# Altium integrated library WE-HCC SMD High Current Cube Inductor.IntLib: 47 symbols
Pins are listed as number, name and electrical type; pins without a type are passive.

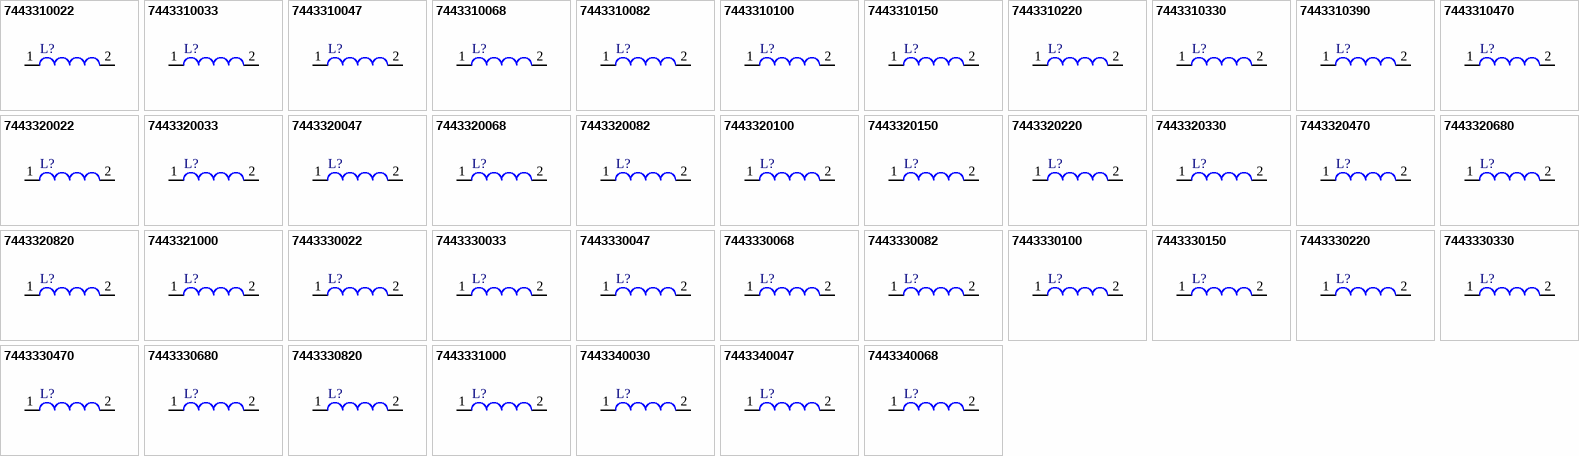
[diagram p0: symbols 7443310022 to 7443340068]

## 7443310022
designator L?
SMD High Current Cube Inductor WE-HCC, L=0.22 µH; PartNumber: 7443310022; Inductance: 0.22 µH; DatasheetVersion: ver 2, Nov-2009; PackageReference: WE-HCC-1210; PackageDescription: Inductor, 2-Leads, Body 12.1 x 11.4 mm; ComponentLink1Description: Manufacturer URL; ComponentLink1URL: http://www.we-online.com; ComponentLink2Description: Datasheet; ComponentLink2URL: http://www.we-online.de/katalog/media/pdf/7443310022.pdf
footprint WE-HCC-1210 (Inductor, 2-Leads, Body 12.1x11.4x10.0 mm)
pins: 1, 2

## 7443310033
designator L?
SMD High Current Cube Inductor WE-HCC, L=0.33 µH; PartNumber: 7443310033; Inductance: 0.33 µH; DatasheetVersion: ver 2, Nov-2009; PackageReference: WE-HCC-1210; PackageDescription: Inductor, 2-Leads, Body 12.1 x 11.4 mm; ComponentLink1Description: Manufacturer URL; ComponentLink1URL: http://www.we-online.com; ComponentLink2Description: Datasheet; ComponentLink2URL: http://www.we-online.de/katalog/media/pdf/7443310033.pdf
footprint WE-HCC-1210 (Inductor, 2-Leads, Body 12.1x11.4x10.0 mm)
pins: 1, 2

## 7443310047
designator L?
SMD High Current Cube Inductor WE-HCC, L=0.47 µH; PartNumber: 7443310047; Inductance: 0.47 µH; DatasheetVersion: ver 2, Nov-2009; PackageReference: WE-HCC-1210; PackageDescription: Inductor, 2-Leads, Body 12.1 x 11.4 mm; ComponentLink1Description: Manufacturer URL; ComponentLink1URL: http://www.we-online.com; ComponentLink2Description: Datasheet; ComponentLink2URL: http://www.we-online.de/katalog/media/pdf/7443310047.pdf
footprint WE-HCC-1210 (Inductor, 2-Leads, Body 12.1x11.4x10.0 mm)
pins: 1, 2

## 7443310068
designator L?
SMD High Current Cube Inductor WE-HCC, L=0.68 µH; PartNumber: 7443310068; Inductance: 0.68 µH; DatasheetVersion: ver 2, Nov-2009; PackageReference: WE-HCC-1210; PackageDescription: Inductor, 2-Leads, Body 12.1 x 11.4 mm; ComponentLink1Description: Manufacturer URL; ComponentLink1URL: http://www.we-online.com; ComponentLink2Description: Datasheet; ComponentLink2URL: http://www.we-online.de/katalog/media/pdf/7443310068.pdf
footprint WE-HCC-1210 (Inductor, 2-Leads, Body 12.1x11.4x10.0 mm)
pins: 1, 2

## 7443310082
designator L?
SMD High Current Cube Inductor WE-HCC, L=0.82 µH; PartNumber: 7443310082; Inductance: 0.82 µH; DatasheetVersion: ver 2, Nov-2009; PackageReference: WE-HCC-1210; PackageDescription: Inductor, 2-Leads, Body 12.1 x 11.4 mm; ComponentLink1Description: Manufacturer URL; ComponentLink1URL: http://www.we-online.com; ComponentLink2Description: Datasheet; ComponentLink2URL: http://www.we-online.de/katalog/media/pdf/7443310082.pdf
footprint WE-HCC-1210 (Inductor, 2-Leads, Body 12.1x11.4x10.0 mm)
pins: 1, 2

## 7443310100
designator L?
SMD High Current Cube Inductor WE-HCC, L=1.00 µH; PartNumber: 7443310100; Inductance: 1.00 µH; DatasheetVersion: ver 2, Nov-2009; PackageReference: WE-HCC-1210; PackageDescription: Inductor, 2-Leads, Body 12.1 x 11.4 mm; ComponentLink1Description: Manufacturer URL; ComponentLink1URL: http://www.we-online.com; ComponentLink2Description: Datasheet; ComponentLink2URL: http://www.we-online.de/katalog/media/pdf/7443310100.pdf
footprint WE-HCC-1210 (Inductor, 2-Leads, Body 12.1x11.4x10.0 mm)
pins: 1, 2

## 7443310150
designator L?
SMD High Current Cube Inductor WE-HCC, L=1.50 µH; PartNumber: 7443310150; Inductance: 1.50 µH; DatasheetVersion: ver 2, Nov-2009; PackageReference: WE-HCC-1210; PackageDescription: Inductor, 2-Leads, Body 12.1 x 11.4 mm; ComponentLink1Description: Manufacturer URL; ComponentLink1URL: http://www.we-online.com; ComponentLink2Description: Datasheet; ComponentLink2URL: http://www.we-online.de/katalog/media/pdf/7443310150.pdf
footprint WE-HCC-1210 (Inductor, 2-Leads, Body 12.1x11.4x10.0 mm)
pins: 1, 2

## 7443310220
designator L?
SMD High Current Cube Inductor WE-HCC, L=2.20 µH; PartNumber: 7443310220; Inductance: 2.20 µH; DatasheetVersion: ver 2, Nov-2009; PackageReference: WE-HCC-1210; PackageDescription: Inductor, 2-Leads, Body 12.1 x 11.4 mm; ComponentLink1Description: Manufacturer URL; ComponentLink1URL: http://www.we-online.com; ComponentLink2Description: Datasheet; ComponentLink2URL: http://www.we-online.de/katalog/media/pdf/7443310220.pdf
footprint WE-HCC-1210 (Inductor, 2-Leads, Body 12.1x11.4x10.0 mm)
pins: 1, 2

## 7443310330
designator L?
SMD High Current Cube Inductor WE-HCC, L=3.30 µH; PartNumber: 7443310330; Inductance: 3.30 µH; DatasheetVersion: ver 2, Nov-2009; PackageReference: WE-HCC-1210; PackageDescription: Inductor, 2-Leads, Body 12.1 x 11.4 mm; ComponentLink1Description: Manufacturer URL; ComponentLink1URL: http://www.we-online.com; ComponentLink2Description: Datasheet; ComponentLink2URL: http://www.we-online.de/katalog/media/pdf/7443310330.pdf
footprint WE-HCC-1210 (Inductor, 2-Leads, Body 12.1x11.4x10.0 mm)
pins: 1, 2

## 7443310390
designator L?
SMD High Current Cube Inductor WE-HCC, L=3.90 µH; PartNumber: 7443310390; Inductance: 3.90 µH; DatasheetVersion: ver 2, Nov-2009; PackageReference: WE-HCC-1210; PackageDescription: Inductor, 2-Leads, Body 12.1 x 11.4 mm; ComponentLink1Description: Manufacturer URL; ComponentLink1URL: http://www.we-online.com; ComponentLink2Description: Datasheet; ComponentLink2URL: http://www.we-online.de/katalog/media/pdf/7443310390.pdf
footprint WE-HCC-1210 (Inductor, 2-Leads, Body 12.1x11.4x10.0 mm)
pins: 1, 2

## 7443310470
designator L?
SMD High Current Cube Inductor WE-HCC, L=4.70 µH; PartNumber: 7443310470; Inductance: 4.70 µH; DatasheetVersion: ver 2, Nov-2009; PackageReference: WE-HCC-1210; PackageDescription: Inductor, 2-Leads, Body 12.1 x 11.4 mm; ComponentLink1Description: Manufacturer URL; ComponentLink1URL: http://www.we-online.com; ComponentLink2Description: Datasheet; ComponentLink2URL: http://www.we-online.de/katalog/media/pdf/7443310470.pdf
footprint WE-HCC-1210 (Inductor, 2-Leads, Body 12.1x11.4x10.0 mm)
pins: 1, 2

## 7443320022
designator L?
SMD High Current Cube Inductor WE-HCC, L=0.22 µH; PartNumber: 7443320022; Inductance: 0.22 µH; DatasheetVersion: ver 2, Nov-2009; PackageReference: WE-HCC-1210; PackageDescription: Inductor, 2-Leads, Body 12.1 x 11.4 mm; ComponentLink1Description: Manufacturer URL; ComponentLink1URL: http://www.we-online.com; ComponentLink2Description: Datasheet; ComponentLink2URL: http://www.we-online.de/katalog/media/pdf/7443320022.pdf
footprint WE-HCC-1210 (Inductor, 2-Leads, Body 12.1x11.4x10.0 mm)
pins: 1, 2

## 7443320033
designator L?
SMD High Current Cube Inductor WE-HCC, L=0.33 µH; PartNumber: 7443320033; Inductance: 0.33 µH; DatasheetVersion: ver 2, Nov-2009; PackageReference: WE-HCC-1210; PackageDescription: Inductor, 2-Leads, Body 12.1 x 11.4 mm; ComponentLink1Description: Manufacturer URL; ComponentLink1URL: http://www.we-online.com; ComponentLink2Description: Datasheet; ComponentLink2URL: http://www.we-online.de/katalog/media/pdf/7443320033.pdf
footprint WE-HCC-1210 (Inductor, 2-Leads, Body 12.1x11.4x10.0 mm)
pins: 1, 2

## 7443320047
designator L?
SMD High Current Cube Inductor WE-HCC, L=0.47 µH; PartNumber: 7443320047; Inductance: 0.47 µH; DatasheetVersion: ver 2, Nov-2009; PackageReference: WE-HCC-1210; PackageDescription: Inductor, 2-Leads, Body 12.1 x 11.4 mm; ComponentLink1Description: Manufacturer URL; ComponentLink1URL: http://www.we-online.com; ComponentLink2Description: Datasheet; ComponentLink2URL: http://www.we-online.de/katalog/media/pdf/7443320047.pdf
footprint WE-HCC-1210 (Inductor, 2-Leads, Body 12.1x11.4x10.0 mm)
pins: 1, 2

## 7443320068
designator L?
SMD High Current Cube Inductor WE-HCC, L=0.68 µH; PartNumber: 7443320068; Inductance: 0.68 µH; DatasheetVersion: ver 2, Nov-2009; PackageReference: WE-HCC-1210; PackageDescription: Inductor, 2-Leads, Body 12.1 x 11.4 mm; ComponentLink1Description: Manufacturer URL; ComponentLink1URL: http://www.we-online.com; ComponentLink2Description: Datasheet; ComponentLink2URL: http://www.we-online.de/katalog/media/pdf/7443320068.pdf
footprint WE-HCC-1210 (Inductor, 2-Leads, Body 12.1x11.4x10.0 mm)
pins: 1, 2

## 7443320082
designator L?
SMD High Current Cube Inductor WE-HCC, L=0.82 µH; PartNumber: 7443320082; Inductance: 0.82 µH; DatasheetVersion: ver 2, Nov-2009; PackageReference: WE-HCC-1210; PackageDescription: Inductor, 2-Leads, Body 12.1 x 11.4 mm; ComponentLink1Description: Manufacturer URL; ComponentLink1URL: http://www.we-online.com; ComponentLink2Description: Datasheet; ComponentLink2URL: http://www.we-online.de/katalog/media/pdf/7443320082.pdf
footprint WE-HCC-1210 (Inductor, 2-Leads, Body 12.1x11.4x10.0 mm)
pins: 1, 2

## 7443320100
designator L?
SMD High Current Cube Inductor WE-HCC, L=1.00 µH; PartNumber: 7443320100; Inductance: 1.00 µH; DatasheetVersion: ver 2, Nov-2009; PackageReference: WE-HCC-1210; PackageDescription: Inductor, 2-Leads, Body 12.1 x 11.4 mm; ComponentLink1Description: Manufacturer URL; ComponentLink1URL: http://www.we-online.com; ComponentLink2Description: Datasheet; ComponentLink2URL: http://www.we-online.de/katalog/media/pdf/7443320100.pdf
footprint WE-HCC-1210 (Inductor, 2-Leads, Body 12.1x11.4x10.0 mm)
pins: 1, 2

## 7443320150
designator L?
SMD High Current Cube Inductor WE-HCC, L=1.50 µH; PartNumber: 7443320150; Inductance: 1.50 µH; DatasheetVersion: ver 2, Nov-2009; PackageReference: WE-HCC-1210; PackageDescription: Inductor, 2-Leads, Body 12.1 x 11.4 mm; ComponentLink1Description: Manufacturer URL; ComponentLink1URL: http://www.we-online.com; ComponentLink2Description: Datasheet; ComponentLink2URL: http://www.we-online.de/katalog/media/pdf/7443320150.pdf
footprint WE-HCC-1210 (Inductor, 2-Leads, Body 12.1x11.4x10.0 mm)
pins: 1, 2

## 7443320220
designator L?
SMD High Current Cube Inductor WE-HCC, L=2.20 µH; PartNumber: 7443320220; Inductance: 2.20 µH; DatasheetVersion: ver 2, Nov-2009; PackageReference: WE-HCC-1210; PackageDescription: Inductor, 2-Leads, Body 12.1 x 11.4 mm; ComponentLink1Description: Manufacturer URL; ComponentLink1URL: http://www.we-online.com; ComponentLink2Description: Datasheet; ComponentLink2URL: http://www.we-online.de/katalog/media/pdf/7443320220.pdf
footprint WE-HCC-1210 (Inductor, 2-Leads, Body 12.1x11.4x10.0 mm)
pins: 1, 2

## 7443320330
designator L?
SMD High Current Cube Inductor WE-HCC, L=3.30 µH; PartNumber: 7443320330; Inductance: 3.30 µH; DatasheetVersion: ver 2, Nov-2009; PackageReference: WE-HCC-1210; PackageDescription: Inductor, 2-Leads, Body 12.1 x 11.4 mm; ComponentLink1Description: Manufacturer URL; ComponentLink1URL: http://www.we-online.com; ComponentLink2Description: Datasheet; ComponentLink2URL: http://www.we-online.de/katalog/media/pdf/7443320330.pdf
footprint WE-HCC-1210 (Inductor, 2-Leads, Body 12.1x11.4x10.0 mm)
pins: 1, 2

## 7443320470
designator L?
SMD High Current Cube Inductor WE-HCC, L=4.70 µH; PartNumber: 7443320470; Inductance: 4.70 µH; DatasheetVersion: ver 2, Nov-2009; PackageReference: WE-HCC-1210; PackageDescription: Inductor, 2-Leads, Body 12.1 x 11.4 mm; ComponentLink1Description: Manufacturer URL; ComponentLink1URL: http://www.we-online.com; ComponentLink2Description: Datasheet; ComponentLink2URL: http://www.we-online.de/katalog/media/pdf/7443320470.pdf
footprint WE-HCC-1210 (Inductor, 2-Leads, Body 12.1x11.4x10.0 mm)
pins: 1, 2

## 7443320680
designator L?
SMD High Current Cube Inductor WE-HCC, L=6.80 µH; PartNumber: 7443320680; Inductance: 6.80 µH; DatasheetVersion: ver 2, Nov-2009; PackageReference: WE-HCC-1210; PackageDescription: Inductor, 2-Leads, Body 12.1 x 11.4 mm; ComponentLink1Description: Manufacturer URL; ComponentLink1URL: http://www.we-online.com; ComponentLink2Description: Datasheet; ComponentLink2URL: http://www.we-online.de/katalog/media/pdf/7443320680.pdf
footprint WE-HCC-1210 (Inductor, 2-Leads, Body 12.1x11.4x10.0 mm)
pins: 1, 2

## 7443320820
designator L?
SMD High Current Cube Inductor WE-HCC, L=8.20 µH; PartNumber: 7443320820; Inductance: 8.20 µH; DatasheetVersion: ver 2, Nov-2009; PackageReference: WE-HCC-1210; PackageDescription: Inductor, 2-Leads, Body 12.1 x 11.4 mm; ComponentLink1Description: Manufacturer URL; ComponentLink1URL: http://www.we-online.com; ComponentLink2Description: Datasheet; ComponentLink2URL: http://www.we-online.de/katalog/media/pdf/7443320820.pdf
footprint WE-HCC-1210 (Inductor, 2-Leads, Body 12.1x11.4x10.0 mm)
pins: 1, 2

## 7443321000
designator L?
SMD High Current Cube Inductor WE-HCC, L=10.0 µH; PartNumber: 7443321000; Inductance: 10.0 µH; DatasheetVersion: ver 2, Nov-2009; PackageReference: WE-HCC-1210; PackageDescription: Inductor, 2-Leads, Body 12.1 x 11.4 mm; ComponentLink1Description: Manufacturer URL; ComponentLink1URL: http://www.we-online.com; ComponentLink2Description: Datasheet; ComponentLink2URL: http://www.we-online.de/katalog/media/pdf/7443321000.pdf
footprint WE-HCC-1210 (Inductor, 2-Leads, Body 12.1x11.4x10.0 mm)
pins: 1, 2

## 7443330022
designator L?
SMD High Current Cube Inductor WE-HCC, L=0.22 µH; PartNumber: 7443330022; Inductance: 0.22 µH; DatasheetVersion: ver 2, Nov-2009; PackageReference: WE-HCC-1090; PackageDescription: Inductor, 2-Leads, Body 10.9 x 10.0 mm; ComponentLink1Description: Manufacturer URL; ComponentLink1URL: http://www.we-online.com; ComponentLink2Description: Datasheet; ComponentLink2URL: http://www.we-online.de/katalog/media/pdf/7443330022.pdf
footprint WE-HCC-1090 (Inductor, 2-Leads, Body 10.9x10.0x9.7 mm)
pins: 1, 2

## 7443330033
designator L?
SMD High Current Cube Inductor WE-HCC, L=0.33 µH; PartNumber: 7443330033; Inductance: 0.33 µH; DatasheetVersion: ver 2, Nov-2009; PackageReference: WE-HCC-1090; PackageDescription: Inductor, 2-Leads, Body 10.9 x 10.0 mm; ComponentLink1Description: Manufacturer URL; ComponentLink1URL: http://www.we-online.com; ComponentLink2Description: Datasheet; ComponentLink2URL: http://www.we-online.de/katalog/media/pdf/7443330033.pdf
footprint WE-HCC-1090 (Inductor, 2-Leads, Body 10.9x10.0x9.7 mm)
pins: 1, 2

## 7443330047
designator L?
SMD High Current Cube Inductor WE-HCC, L=0.47 µH; PartNumber: 7443330047; Inductance: 0.47 µH; DatasheetVersion: ver 2, Nov-2009; PackageReference: WE-HCC-1090; PackageDescription: Inductor, 2-Leads, Body 10.9 x 10.0 mm; ComponentLink1Description: Manufacturer URL; ComponentLink1URL: http://www.we-online.com; ComponentLink2Description: Datasheet; ComponentLink2URL: http://www.we-online.de/katalog/media/pdf/7443330047.pdf
footprint WE-HCC-1090 (Inductor, 2-Leads, Body 10.9x10.0x9.7 mm)
pins: 1, 2

## 7443330068
designator L?
SMD High Current Cube Inductor WE-HCC, L=0.68 µH; PartNumber: 7443330068; Inductance: 0.68 µH; DatasheetVersion: ver 2, Nov-2009; PackageReference: WE-HCC-1090; PackageDescription: Inductor, 2-Leads, Body 10.9 x 10.0 mm; ComponentLink1Description: Manufacturer URL; ComponentLink1URL: http://www.we-online.com; ComponentLink2Description: Datasheet; ComponentLink2URL: http://www.we-online.de/katalog/media/pdf/7443330068.pdf
footprint WE-HCC-1090 (Inductor, 2-Leads, Body 10.9x10.0x9.7 mm)
pins: 1, 2

## 7443330082
designator L?
SMD High Current Cube Inductor WE-HCC, L=0.82 µH; PartNumber: 7443330082; Inductance: 0.82 µH; DatasheetVersion: ver 2, Nov-2009; PackageReference: WE-HCC-1090; PackageDescription: Inductor, 2-Leads, Body 10.9 x 10.0 mm; ComponentLink1Description: Manufacturer URL; ComponentLink1URL: http://www.we-online.com; ComponentLink2Description: Datasheet; ComponentLink2URL: http://www.we-online.de/katalog/media/pdf/7443330082.pdf
footprint WE-HCC-1090 (Inductor, 2-Leads, Body 10.9x10.0x9.7 mm)
pins: 1, 2

## 7443330100
designator L?
SMD High Current Cube Inductor WE-HCC, L=1.00 µH; PartNumber: 7443330100; Inductance: 1.00 µH; DatasheetVersion: ver 2, Nov-2009; PackageReference: WE-HCC-1090; PackageDescription: Inductor, 2-Leads, Body 10.9 x 10.0 mm; ComponentLink1Description: Manufacturer URL; ComponentLink1URL: http://www.we-online.com; ComponentLink2Description: Datasheet; ComponentLink2URL: http://www.we-online.de/katalog/media/pdf/7443330100.pdf
footprint WE-HCC-1090 (Inductor, 2-Leads, Body 10.9x10.0x9.7 mm)
pins: 1, 2

## 7443330150
designator L?
SMD High Current Cube Inductor WE-HCC, L=1.50 µH; PartNumber: 7443330150; Inductance: 1.50 µH; DatasheetVersion: ver 2, Nov-2009; PackageReference: WE-HCC-1090; PackageDescription: Inductor, 2-Leads, Body 10.9 x 10.0 mm; ComponentLink1Description: Manufacturer URL; ComponentLink1URL: http://www.we-online.com; ComponentLink2Description: Datasheet; ComponentLink2URL: http://www.we-online.de/katalog/media/pdf/7443330150.pdf
footprint WE-HCC-1090 (Inductor, 2-Leads, Body 10.9x10.0x9.7 mm)
pins: 1, 2

## 7443330220
designator L?
SMD High Current Cube Inductor WE-HCC, L=2.20 µH; PartNumber: 7443330220; Inductance: 2.20 µH; DatasheetVersion: ver 2, Nov-2009; PackageReference: WE-HCC-1090; PackageDescription: Inductor, 2-Leads, Body 10.9 x 10.0 mm; ComponentLink1Description: Manufacturer URL; ComponentLink1URL: http://www.we-online.com; ComponentLink2Description: Datasheet; ComponentLink2URL: http://www.we-online.de/katalog/media/pdf/7443330220.pdf
footprint WE-HCC-1090 (Inductor, 2-Leads, Body 10.9x10.0x9.7 mm)
pins: 1, 2

## 7443330330
designator L?
SMD High Current Cube Inductor WE-HCC, L=3.30 µH; PartNumber: 7443330330; Inductance: 3.30 µH; DatasheetVersion: ver 2, Nov-2009; PackageReference: WE-HCC-1090; PackageDescription: Inductor, 2-Leads, Body 10.9 x 10.0 mm; ComponentLink1Description: Manufacturer URL; ComponentLink1URL: http://www.we-online.com; ComponentLink2Description: Datasheet; ComponentLink2URL: http://www.we-online.de/katalog/media/pdf/7443330330.pdf
footprint WE-HCC-1090 (Inductor, 2-Leads, Body 10.9x10.0x9.7 mm)
pins: 1, 2

## 7443330470
designator L?
SMD High Current Cube Inductor WE-HCC, L=4.70 µH; PartNumber: 7443330470; Inductance: 4.70 µH; DatasheetVersion: ver 2, Nov-2009; PackageReference: WE-HCC-1090; PackageDescription: Inductor, 2-Leads, Body 10.9 x 10.0 mm; ComponentLink1Description: Manufacturer URL; ComponentLink1URL: http://www.we-online.com; ComponentLink2Description: Datasheet; ComponentLink2URL: http://www.we-online.de/katalog/media/pdf/7443330470.pdf
footprint WE-HCC-1090 (Inductor, 2-Leads, Body 10.9x10.0x9.7 mm)
pins: 1, 2

## 7443330680
designator L?
SMD High Current Cube Inductor WE-HCC, L=6.80 µH; PartNumber: 7443330680; Inductance: 6.80 µH; DatasheetVersion: ver 2, Nov-2009; PackageReference: WE-HCC-1090; PackageDescription: Inductor, 2-Leads, Body 10.9 x 10.0 mm; ComponentLink1Description: Manufacturer URL; ComponentLink1URL: http://www.we-online.com; ComponentLink2Description: Datasheet; ComponentLink2URL: http://www.we-online.de/katalog/media/pdf/7443330680.pdf
footprint WE-HCC-1090 (Inductor, 2-Leads, Body 10.9x10.0x9.7 mm)
pins: 1, 2

## 7443330820
designator L?
SMD High Current Cube Inductor WE-HCC, L=8.20 µH; PartNumber: 7443330820; Inductance: 8.20 µH; DatasheetVersion: ver 2, Nov-2009; PackageReference: WE-HCC-1090; PackageDescription: Inductor, 2-Leads, Body 10.9 x 10.0 mm; ComponentLink1Description: Manufacturer URL; ComponentLink1URL: http://www.we-online.com; ComponentLink2Description: Datasheet; ComponentLink2URL: http://www.we-online.de/katalog/media/pdf/7443330820.pdf
footprint WE-HCC-1090 (Inductor, 2-Leads, Body 10.9x10.0x9.7 mm)
pins: 1, 2

## 7443331000
designator L?
SMD High Current Cube Inductor WE-HCC, L=10.0 µH; PartNumber: 7443331000; Inductance: 10.0 µH; DatasheetVersion: ver 2, Nov-2009; PackageReference: WE-HCC-1090; PackageDescription: Inductor, 2-Leads, Body 10.9 x 10.0 mm; ComponentLink1Description: Manufacturer URL; ComponentLink1URL: http://www.we-online.com; ComponentLink2Description: Datasheet; ComponentLink2URL: http://www.we-online.de/katalog/media/pdf/7443331000.pdf
footprint WE-HCC-1090 (Inductor, 2-Leads, Body 10.9x10.0x9.7 mm)
pins: 1, 2

## 7443340030
designator L?
SMD High Current Cube Inductor WE-HCC, L=0.30 µH; PartNumber: 7443340030; Inductance: 0.30 µH; DatasheetVersion: ver 2, Nov-2009; PackageReference: WE-HCC-8070; PackageDescription: Inductor, 2-Leads, Body 8.4 x 7.9 mm; ComponentLink1Description: Manufacturer URL; ComponentLink1URL: http://www.we-online.com; ComponentLink2Description: Datasheet; ComponentLink2URL: http://www.we-online.de/katalog/media/pdf/7443340030.pdf
footprint WE-HCC-8070 (Inductor, 2-Leads, Body 8.4x7.9x7.5 mm)
pins: 1, 2

## 7443340047
designator L?
SMD High Current Cube Inductor WE-HCC, L=0.47 µH; PartNumber: 7443340047; Inductance: 0.47 µH; DatasheetVersion: ver 2, Nov-2009; PackageReference: WE-HCC-8070; PackageDescription: Inductor, 2-Leads, Body 8.4 x 7.9 mm; ComponentLink1Description: Manufacturer URL; ComponentLink1URL: http://www.we-online.com; ComponentLink2Description: Datasheet; ComponentLink2URL: http://www.we-online.de/katalog/media/pdf/7443340047.pdf
footprint WE-HCC-8070 (Inductor, 2-Leads, Body 8.4x7.9x7.5 mm)
pins: 1, 2

## 7443340068
designator L?
SMD High Current Cube Inductor WE-HCC, L=0.68 µH; PartNumber: 7443340068; Inductance: 0.68 µH; DatasheetVersion: ver 2, Nov-2009; PackageReference: WE-HCC-8070; PackageDescription: Inductor, 2-Leads, Body 8.4 x 7.9 mm; ComponentLink1Description: Manufacturer URL; ComponentLink1URL: http://www.we-online.com; ComponentLink2Description: Datasheet; ComponentLink2URL: http://www.we-online.de/katalog/media/pdf/7443340068.pdf
footprint WE-HCC-8070 (Inductor, 2-Leads, Body 8.4x7.9x7.5 mm)
pins: 1, 2

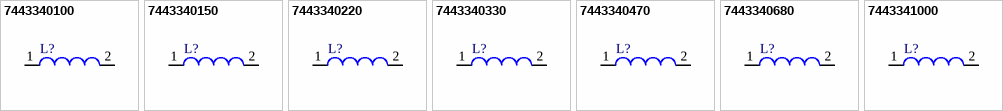
[diagram p1: symbols 7443340100 to 7443341000]

## 7443340100
designator L?
SMD High Current Cube Inductor WE-HCC, L=1.00 µH; PartNumber: 7443340100; Inductance: 1.00 µH; DatasheetVersion: ver 2, Nov-2009; PackageReference: WE-HCC-8070; PackageDescription: Inductor, 2-Leads, Body 8.4 x 7.9 mm; ComponentLink1Description: Manufacturer URL; ComponentLink1URL: http://www.we-online.com; ComponentLink2Description: Datasheet; ComponentLink2URL: http://www.we-online.de/katalog/media/pdf/7443340100.pdf
footprint WE-HCC-8070 (Inductor, 2-Leads, Body 8.4x7.9x7.5 mm)
pins: 1, 2

## 7443340150
designator L?
SMD High Current Cube Inductor WE-HCC, L=1.50 µH; PartNumber: 7443340150; Inductance: 1.50 µH; DatasheetVersion: ver 2, Nov-2009; PackageReference: WE-HCC-8070; PackageDescription: Inductor, 2-Leads, Body 8.4 x 7.9 mm; ComponentLink1Description: Manufacturer URL; ComponentLink1URL: http://www.we-online.com; ComponentLink2Description: Datasheet; ComponentLink2URL: http://www.we-online.de/katalog/media/pdf/7443340150.pdf
footprint WE-HCC-8070 (Inductor, 2-Leads, Body 8.4x7.9x7.5 mm)
pins: 1, 2

## 7443340220
designator L?
SMD High Current Cube Inductor WE-HCC, L=2.20 µH; PartNumber: 7443340220; Inductance: 2.20 µH; DatasheetVersion: ver 2, Nov-2009; PackageReference: WE-HCC-8070; PackageDescription: Inductor, 2-Leads, Body 8.4 x 7.9 mm; ComponentLink1Description: Manufacturer URL; ComponentLink1URL: http://www.we-online.com; ComponentLink2Description: Datasheet; ComponentLink2URL: http://www.we-online.de/katalog/media/pdf/7443340220.pdf
footprint WE-HCC-8070 (Inductor, 2-Leads, Body 8.4x7.9x7.5 mm)
pins: 1, 2

## 7443340330
designator L?
SMD High Current Cube Inductor WE-HCC, L=3.30 µH; PartNumber: 7443340330; Inductance: 3.30 µH; DatasheetVersion: ver 2, Nov-2009; PackageReference: WE-HCC-8070; PackageDescription: Inductor, 2-Leads, Body 8.4 x 7.9 mm; ComponentLink1Description: Manufacturer URL; ComponentLink1URL: http://www.we-online.com; ComponentLink2Description: Datasheet; ComponentLink2URL: http://www.we-online.de/katalog/media/pdf/7443340330.pdf
footprint WE-HCC-8070 (Inductor, 2-Leads, Body 8.4x7.9x7.5 mm)
pins: 1, 2

## 7443340470
designator L?
SMD High Current Cube Inductor WE-HCC, L=4.70 µH; PartNumber: 7443340470; Inductance: 4.70 µH; PackageReference: WE-HCC 8070; PackageDescription: Inductor, 2-Leads, Body 8.4 x 7.9 mm; ComponentLink1Description: Manufacturer URL; ComponentLink1URL: http://www.we-online.com
footprint WE-HCC-8070 (Inductor, 2-Leads, Body 8.4x7.9x7.5 mm)
pins: 1, 2

## 7443340680
designator L?
SMD High Current Cube Inductor WE-HCC, L=6.80 µH; PartNumber: 7443340680; Inductance: 6.80 µH; PackageReference: WE-HCC 8070; PackageDescription: Inductor, 2-Leads, Body 8.4 x 7.9 mm; ComponentLink1Description: Manufacturer URL; ComponentLink1URL: http://www.we-online.com
footprint WE-HCC-8070 (Inductor, 2-Leads, Body 8.4x7.9x7.5 mm)
pins: 1, 2

## 7443341000
designator L?
SMD High Current Cube Inductor WE-HCC, L=10.0 µH; PartNumber: 7443341000; Inductance: 10.0 µH; PackageReference: WE-HCC 8070; PackageDescription: Inductor, 2-Leads, Body 8.4 x 7.9 mm; ComponentLink1Description: Manufacturer URL; ComponentLink1URL: http://www.we-online.com
footprint WE-HCC-8070 (Inductor, 2-Leads, Body 8.4x7.9x7.5 mm)
pins: 1, 2